# EAGLE library part TPS62230 (library texas)
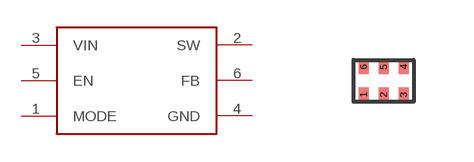
[diagram p126: symbol with the pads of TPS62730; footprint TPS62730]

Designator prefix -

## TPS62230  [TPS62730]
1  MODE
2  SW
3  VIN
4  GND
5  EN
6  FB

## Footprint TPS62730 (pad centres in mm)
smd 0.25 x 0.35: 1 -0.5,-0.35; 2 0,-0.35; 3 0.5,-0.35; 4 0.5,0.35; 5 0,0.35; 6 -0.5,0.35